# Altium schematic symbol library MCP6002.SchLib: 1 symbol
Pins are listed as number, name and electrical type; pins without a type are passive.

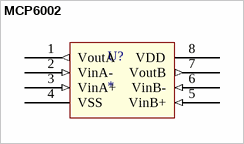
[diagram p0: symbol MCP6002]

## MCP6002
designator U?
Double Operational Amplifier
footprint MCP6002
pins: 1 VoutA (out), 2 VinA- (in), 3 VinA+ (in), 4 VSS (power), 5 VinB+ (in), 6 VinB- (in), 7 VoutB (out), 8 VDD (power)